# EAGLE library part MCP9808 (library temp_sens_ring)
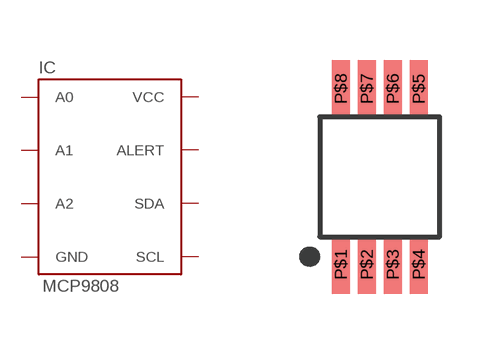
[diagram p1: symbol with the pads of MSOP-8; footprint MSOP-8]

Designator prefix IC

## MCP9808  [MSOP-8]
P$1  SDA
P$2  SCL
P$3  ALERT  out
P$4  GND  pwr
P$5  A2
P$6  A1
P$7  A0
P$8  VCC  pwr

## Footprint MSOP-8 (pad centres in mm)
smd 0.45 x 1.45: P$1 -0.975,-2.2; P$2 -0.325,-2.2; P$3 0.325,-2.2; P$4 0.975,-2.2; P$5 0.975,2.2; P$6 0.325,2.2; P$7 -0.325,2.2; P$8 -0.975,2.2